# Altium integrated library PULSADOR.IntLib: 1 symbol
Pins are listed as number, name and electrical type; pins without a type are passive.

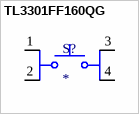
[diagram p0: symbol TL3301FF160QG]

## TL3301FF160QG
designator S?
SWITCH TACTILE SPST-NO 0.05A 12V; MF: E-Switch; MP: TL3301FF160QG; Package: None; Check_prices: https://www.snapeda.com/parts/TL3301FF160QG/E-Switch/view-part/?ref=eda; Availability: In Stock; Value: *; Purchase-URL: https://pricing.snapeda.com/search/part/TL3301FF160QG/?ref=eda; Price: None; SnapEDA_Link: https://www.snapeda.com/parts/TL3301FF160QG/E-Switch/view-part/?ref=snap
footprint SW_TL3301FF160QG
pins: 1, 2, 3, 4